# Altium schematic symbol library AD8032ARMZ.SchLib: 1 symbol
Pins are listed as number, name and electrical type; pins without a type are passive.

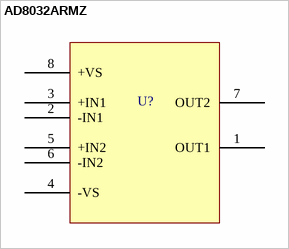
[diagram p0: symbol AD8032ARMZ]

## AD8032ARMZ
designator U?
MF: Analog Devices; MP: AD8032ARMZ; Package: MSOP-8 Analog Devices; Availability: In Stock; Purchase-URL: https://pricing.snapeda.com/search/part/AD8032ARMZ/?ref=eda; Value: *; SnapEDA_Link: https://www.snapeda.com/parts/AD8032ARMZ/Analog+Devices/view-part/?ref=snap; Price: None; Check_prices: https://www.snapeda.com/parts/AD8032ARMZ/Analog+Devices/view-part/?ref=eda
footprint SOP65P490X110-8N
pins: 1 OUT1, 2 -IN1, 3 +IN1, 4 -VS (power), 5 +IN2, 6 -IN2, 7 OUT2, 8 +VS (power)